# EAGLE library part TPS54140_DGQ_10 (library TPS54140_DGQ_10)
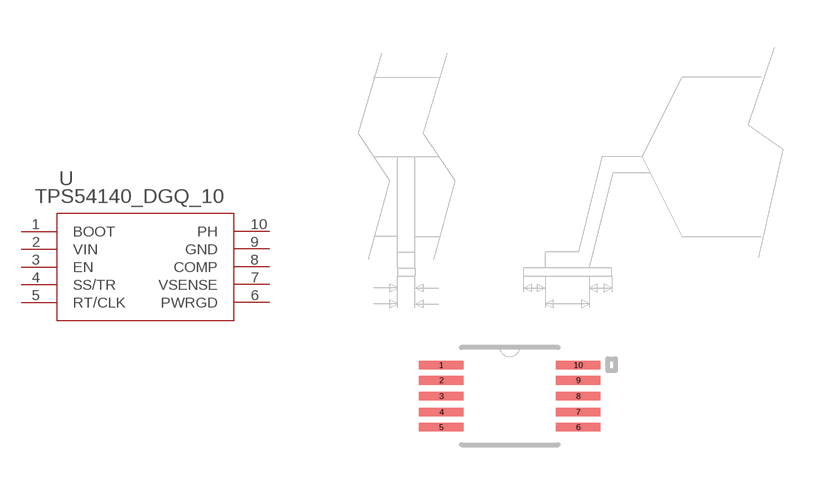
[diagram p0: symbol with the pads of DGQ10_1P88X1P57; footprint DGQ10_1P88X1P57]

Designator prefix U

## TPS54140_DGQ_10 (DATASHEETURL: http://www.ti.com/lit/gpn/TPS54140; DESCRIPTION: 3.5V to 42V Input, 1.5A Step-Down Converter with Eco-Mode; FAMILY_NAME: STEP-DOWN REGULATOR; GENERIC_PART_NUMBER: TPS54140; INDUSTRY_STD_PKG_TYPE: MSOP-PowerPAD; MANUFACTURER: Texas Instruments; MANUFACTURER_PART_NUMBER: tps54140_dgq_10; PACKAGE_DESIGNATOR: DGQ; PIN_COUNT: 10; VENDOR: Texas Instruments)  [DGQ10_1P88X1P57]
1  BOOT  out
2  VIN  in
3  EN  in
4  SS/TR  in
5  RT/CLK  in
6  PWRGD  out
7  VSENSE  in
8  COMP  out
9  GND  pwr
10  PH  in

## Footprint DGQ10_1P88X1P57 (pad centres in mm)
smd 1.422 x 0.279: 1 -2.184,0.991; 2 -2.184,0.508; 3 -2.184,0; 4 -2.184,-0.508; 5 -2.184,-0.991; 6 2.184,-0.991; 7 2.184,-0.508; 8 2.184,0; 9 2.184,0.508; 10 2.184,0.991